# Altium schematic symbol library FMC-HPC.SchLib: 1 symbol
Pins are listed as number, name and electrical type; pins without a type are passive.

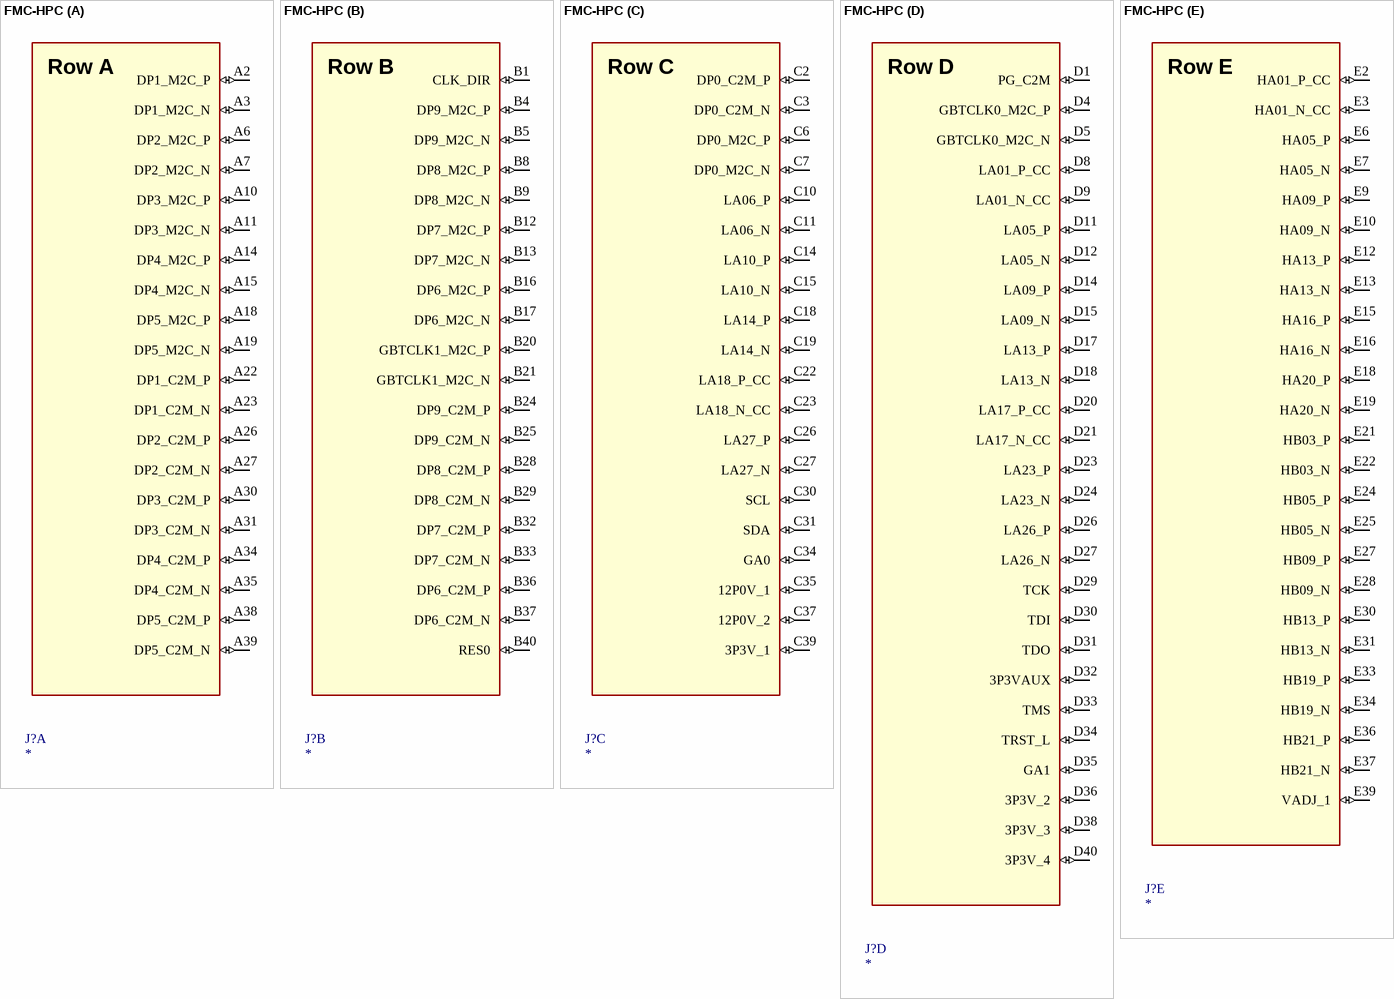
[diagram p0: symbol FMC-HPC]

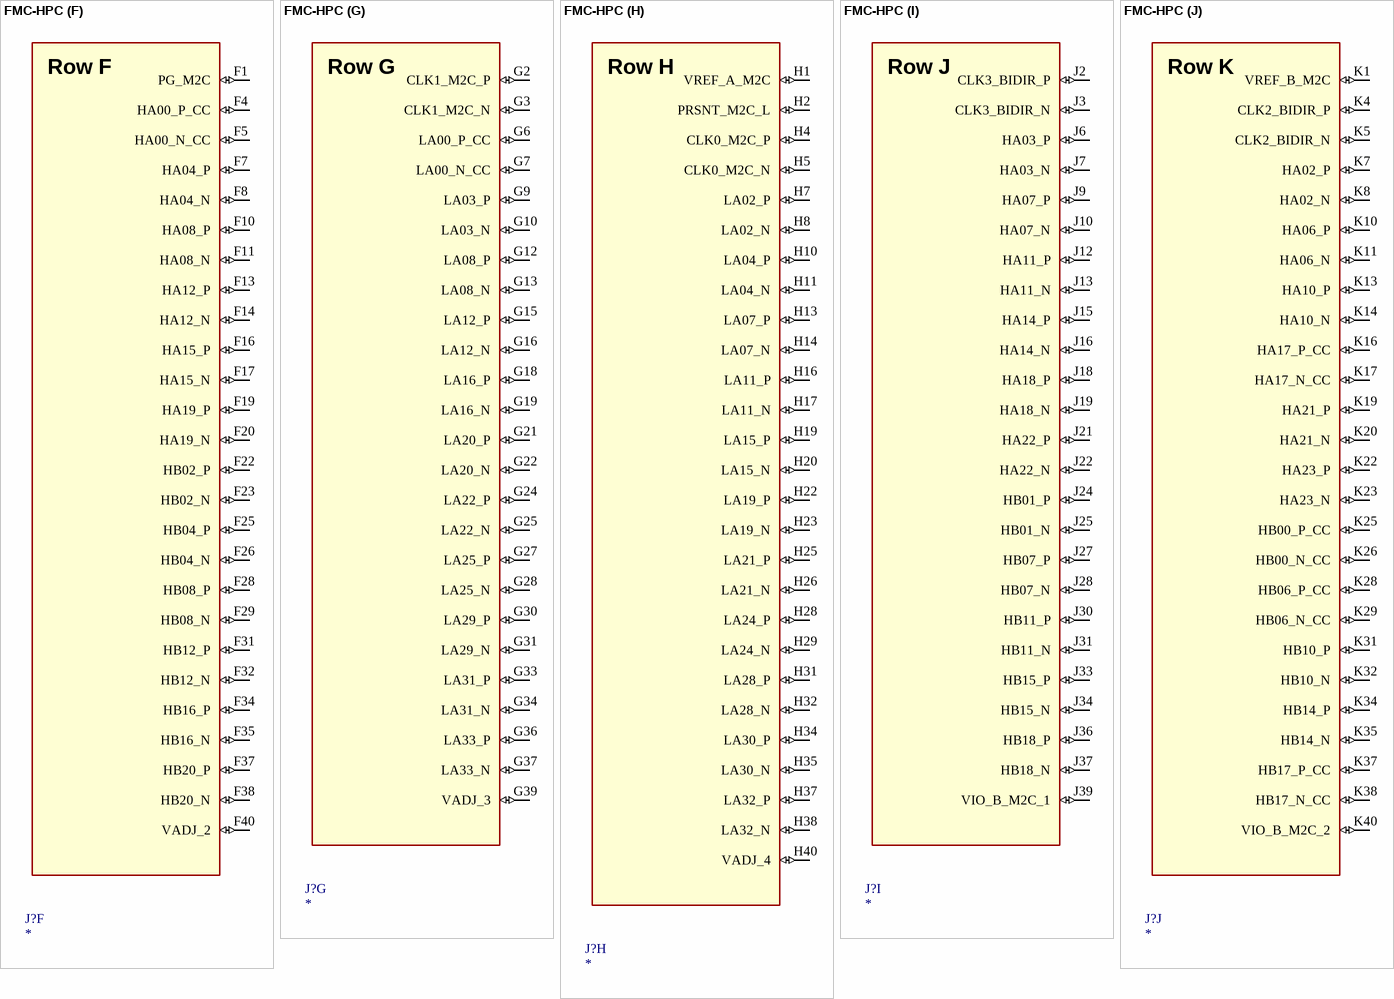
[diagram p1: symbol FMC-HPC]

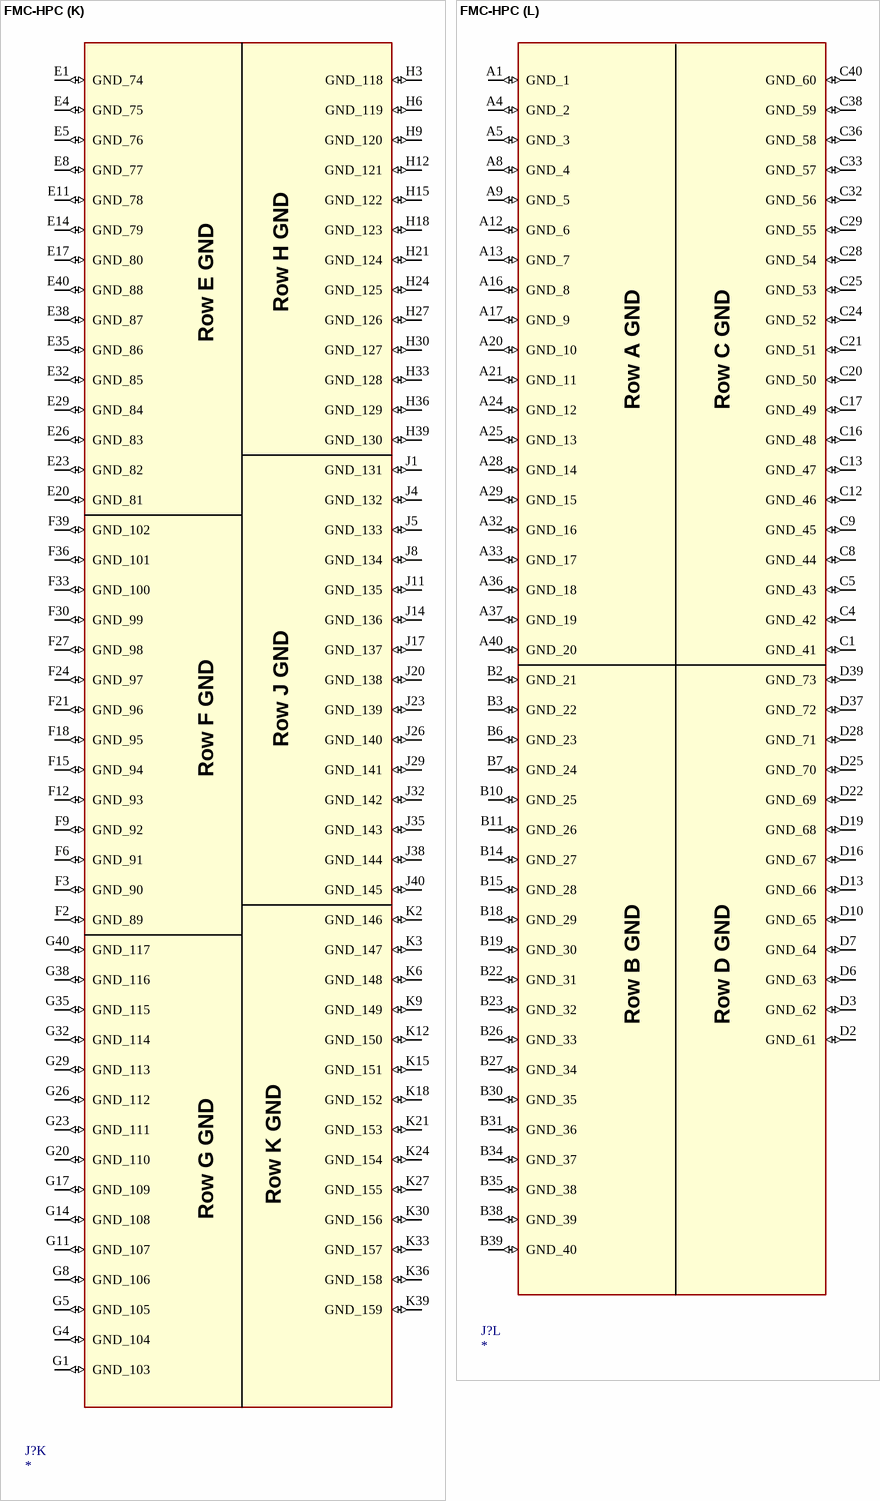
[diagram p2: symbol FMC-HPC]

## FMC-HPC
designator J?
signal-integrity model Model Name (Model Description)
part A pins: A2 DP1_M2C_P (io), A3 DP1_M2C_N (io), A6 DP2_M2C_P (io), A7 DP2_M2C_N (io), A10 DP3_M2C_P (io), A11 DP3_M2C_N (io), A14 DP4_M2C_P (io), A15 DP4_M2C_N (io), A18 DP5_M2C_P (io), A19 DP5_M2C_N (io), A22 DP1_C2M_P (io), A23 DP1_C2M_N (io), A26 DP2_C2M_P (io), A27 DP2_C2M_N (io), A30 DP3_C2M_P (io), A31 DP3_C2M_N (io), A34 DP4_C2M_P (io), A35 DP4_C2M_N (io), A38 DP5_C2M_P (io), A39 DP5_C2M_N (io)
part B pins: B1 CLK_DIR (io), B4 DP9_M2C_P (io), B5 DP9_M2C_N (io), B8 DP8_M2C_P (io), B9 DP8_M2C_N (io), B12 DP7_M2C_P (io), B13 DP7_M2C_N (io), B16 DP6_M2C_P (io), B17 DP6_M2C_N (io), B20 GBTCLK1_M2C_P (io), B21 GBTCLK1_M2C_N (io), B24 DP9_C2M_P (io), B25 DP9_C2M_N (io), B28 DP8_C2M_P (io), B29 DP8_C2M_N (io), B32 DP7_C2M_P (io), B33 DP7_C2M_N (io), B36 DP6_C2M_P (io), B37 DP6_C2M_N (io), B40 RES0 (io)
part C pins: C2 DP0_C2M_P (io), C3 DP0_C2M_N (io), C6 DP0_M2C_P (io), C7 DP0_M2C_N (io), C10 LA06_P (io), C11 LA06_N (io), C14 LA10_P (io), C15 LA10_N (io), C18 LA14_P (io), C19 LA14_N (io), C22 LA18_P_CC (io), C23 LA18_N_CC (io), C26 LA27_P (io), C27 LA27_N (io), C30 SCL (io), C31 SDA (io), C34 GA0 (io), C35 12P0V_1 (io), C37 12P0V_2 (io), C39 3P3V_1 (io)
part D pins: D1 PG_C2M (io), D4 GBTCLK0_M2C_P (io), D5 GBTCLK0_M2C_N (io), D8 LA01_P_CC (io), D9 LA01_N_CC (io), D11 LA05_P (io), D12 LA05_N (io), D14 LA09_P (io), D15 LA09_N (io), D17 LA13_P (io), D18 LA13_N (io), D20 LA17_P_CC (io), D21 LA17_N_CC (io), D23 LA23_P (io), D24 LA23_N (io), D26 LA26_P (io), D27 LA26_N (io), D29 TCK (io), D30 TDI (io), D31 TDO (io), D32 3P3VAUX (io), D33 TMS (io), D34 TRST_L (io), D35 GA1 (io), D36 3P3V_2 (io), D38 3P3V_3 (io), D40 3P3V_4 (io)
part E pins: E2 HA01_P_CC (io), E3 HA01_N_CC (io), E6 HA05_P (io), E7 HA05_N (io), E9 HA09_P (io), E10 HA09_N (io), E12 HA13_P (io), E13 HA13_N (io), E15 HA16_P (io), E16 HA16_N (io), E18 HA20_P (io), E19 HA20_N (io), E21 HB03_P (io), E22 HB03_N (io), E24 HB05_P (io), E25 HB05_N (io), E27 HB09_P (io), E28 HB09_N (io), E30 HB13_P (io), E31 HB13_N (io), E33 HB19_P (io), E34 HB19_N (io), E36 HB21_P (io), E37 HB21_N (io), E39 VADJ_1 (io)
part F pins: F1 PG_M2C (io), F4 HA00_P_CC (io), F5 HA00_N_CC (io), F7 HA04_P (io), F8 HA04_N (io), F10 HA08_P (io), F11 HA08_N (io), F13 HA12_P (io), F14 HA12_N (io), F16 HA15_P (io), F17 HA15_N (io), F19 HA19_P (io), F20 HA19_N (io), F22 HB02_P (io), F23 HB02_N (io), F25 HB04_P (io), F26 HB04_N (io), F28 HB08_P (io), F29 HB08_N (io), F31 HB12_P (io), F32 HB12_N (io), F34 HB16_P (io), F35 HB16_N (io), F37 HB20_P (io), F38 HB20_N (io), F40 VADJ_2 (io)
part G pins: G2 CLK1_M2C_P (io), G3 CLK1_M2C_N (io), G6 LA00_P_CC (io), G7 LA00_N_CC (io), G9 LA03_P (io), G10 LA03_N (io), G12 LA08_P (io), G13 LA08_N (io), G15 LA12_P (io), G16 LA12_N (io), G18 LA16_P (io), G19 LA16_N (io), G21 LA20_P (io), G22 LA20_N (io), G24 LA22_P (io), G25 LA22_N (io), G27 LA25_P (io), G28 LA25_N (io), G30 LA29_P (io), G31 LA29_N (io), G33 LA31_P (io), G34 LA31_N (io), G36 LA33_P (io), G37 LA33_N (io), G39 VADJ_3 (io)
part H pins: H1 VREF_A_M2C (io), H2 PRSNT_M2C_L (io), H4 CLK0_M2C_P (io), H5 CLK0_M2C_N (io), H7 LA02_P (io), H8 LA02_N (io), H10 LA04_P (io), H11 LA04_N (io), H13 LA07_P (io), H14 LA07_N (io), H16 LA11_P (io), H17 LA11_N (io), H19 LA15_P (io), H20 LA15_N (io), H22 LA19_P (io), H23 LA19_N (io), H25 LA21_P (io), H26 LA21_N (io), H28 LA24_P (io), H29 LA24_N (io), H31 LA28_P (io), H32 LA28_N (io), H34 LA30_P (io), H35 LA30_N (io), H37 LA32_P (io), H38 LA32_N (io), H40 VADJ_4 (io)
part I pins: J2 CLK3_BIDIR_P (io), J3 CLK3_BIDIR_N (io), J6 HA03_P (io), J7 HA03_N (io), J9 HA07_P (io), J10 HA07_N (io), J12 HA11_P (io), J13 HA11_N (io), J15 HA14_P (io), J16 HA14_N (io), J18 HA18_P (io), J19 HA18_N (io), J21 HA22_P (io), J22 HA22_N (io), J24 HB01_P (io), J25 HB01_N (io), J27 HB07_P (io), J28 HB07_N (io), J30 HB11_P (io), J31 HB11_N (io), J33 HB15_P (io), J34 HB15_N (io), J36 HB18_P (io), J37 HB18_N (io), J39 VIO_B_M2C_1 (io)
part J pins: K1 VREF_B_M2C (io), K4 CLK2_BIDIR_P (io), K5 CLK2_BIDIR_N (io), K7 HA02_P (io), K8 HA02_N (io), K10 HA06_P (io), K11 HA06_N (io), K13 HA10_P (io), K14 HA10_N (io), K16 HA17_P_CC (io), K17 HA17_N_CC (io), K19 HA21_P (io), K20 HA21_N (io), K22 HA23_P (io), K23 HA23_N (io), K25 HB00_P_CC (io), K26 HB00_N_CC (io), K28 HB06_P_CC (io), K29 HB06_N_CC (io), K31 HB10_P (io), K32 HB10_N (io), K34 HB14_P (io), K35 HB14_N (io), K37 HB17_P_CC (io), K38 HB17_N_CC (io), K40 VIO_B_M2C_2 (io)
part K pins: E1 GND_74 (io), E4 GND_75 (io), E5 GND_76 (io), E8 GND_77 (io), E11 GND_78 (io), E14 GND_79 (io), E17 GND_80 (io), E20 GND_81 (io), E23 GND_82 (io), E26 GND_83 (io), E29 GND_84 (io), E32 GND_85 (io), E35 GND_86 (io), E38 GND_87 (io), E40 GND_88 (io), F2 GND_89 (io), F3 GND_90 (io), F6 GND_91 (io), F9 GND_92 (io), F12 GND_93 (io), F15 GND_94 (io), F18 GND_95 (io), F21 GND_96 (io), F24 GND_97 (io), F27 GND_98 (io), F30 GND_99 (io), F33 GND_100 (io), F36 GND_101 (io), F39 GND_102 (io), G1 GND_103 (io), G4 GND_104 (io), G5 GND_105 (io), G8 GND_106 (io), G11 GND_107 (io), G14 GND_108 (io), G17 GND_109 (io), G20 GND_110 (io), G23 GND_111 (io), G26 GND_112 (io), G29 GND_113 (io), G32 GND_114 (io), G35 GND_115 (io), G38 GND_116 (io), G40 GND_117 (io), H3 GND_118 (io), H6 GND_119 (io), H9 GND_120 (io), H12 GND_121 (io), H15 GND_122 (io), H18 GND_123 (io), H21 GND_124 (io), H24 GND_125 (io), H27 GND_126 (io), H30 GND_127 (io), H33 GND_128 (io), H36 GND_129 (io), H39 GND_130 (io), J1 GND_131 (io), J4 GND_132 (io), J5 GND_133 (io), J8 GND_134 (io), J11 GND_135 (io), J14 GND_136 (io), J17 GND_137 (io), J20 GND_138 (io), J23 GND_139 (io), J26 GND_140 (io), J29 GND_141 (io), J32 GND_142 (io), J35 GND_143 (io), J38 GND_144 (io), J40 GND_145 (io), K2 GND_146 (io), K3 GND_147 (io), K6 GND_148 (io), K9 GND_149 (io), K12 GND_150 (io), K15 GND_151 (io), K18 GND_152 (io), K21 GND_153 (io), K24 GND_154 (io), K27 GND_155 (io), K30 GND_156 (io), K33 GND_157 (io), K36 GND_158 (io), K39 GND_159 (io)
part L pins: A1 GND_1 (io), A4 GND_2 (io), A5 GND_3 (io), A8 GND_4 (io), A9 GND_5 (io), A12 GND_6 (io), A13 GND_7 (io), A16 GND_8 (io), A17 GND_9 (io), A20 GND_10 (io), A21 GND_11 (io), A24 GND_12 (io), A25 GND_13 (io), A28 GND_14 (io), A29 GND_15 (io), A32 GND_16 (io), A33 GND_17 (io), A36 GND_18 (io), A37 GND_19 (io), A40 GND_20 (io), B2 GND_21 (io), B3 GND_22 (io), B6 GND_23 (io), B7 GND_24 (io), B10 GND_25 (io), B11 GND_26 (io), B14 GND_27 (io), B15 GND_28 (io), B18 GND_29 (io), B19 GND_30 (io), B22 GND_31 (io), B23 GND_32 (io), B26 GND_33 (io), B27 GND_34 (io), B30 GND_35 (io), B31 GND_36 (io), B34 GND_37 (io), B35 GND_38 (io), B38 GND_39 (io), B39 GND_40 (io), C1 GND_41 (io), C4 GND_42 (io), C5 GND_43 (io), C8 GND_44 (io), C9 GND_45 (io), C12 GND_46 (io), C13 GND_47 (io), C16 GND_48 (io), C17 GND_49 (io), C20 GND_50 (io), C21 GND_51 (io), C24 GND_52 (io), C25 GND_53 (io), C28 GND_54 (io), C29 GND_55 (io), C32 GND_56 (io), C33 GND_57 (io), C36 GND_58 (io), C38 GND_59 (io), C40 GND_60 (io), D2 GND_61 (io), D3 GND_62 (io), D6 GND_63 (io), D7 GND_64 (io), D10 GND_65 (io), D13 GND_66 (io), D16 GND_67 (io), D19 GND_68 (io), D22 GND_69 (io), D25 GND_70 (io), D28 GND_71 (io), D37 GND_72 (io), D39 GND_73 (io)
part A text: Row A
part B text: Row B
part C text: Row C
part D text: Row D
part E text: Row E
part F text: Row F
part G text: Row G
part H text: Row H
part I text: Row J
part J text: Row K
part K text: Row H GND; Row E GND; Row J GND; Row F GND; Row K GND; Row G GND
part L text: Row A GND; Row C GND; Row B GND; Row D GND